# Altium schematic symbol library MOLEX_KK254.SchLib: 5 symbols
Pins are listed as number, name and electrical type; pins without a type are passive.

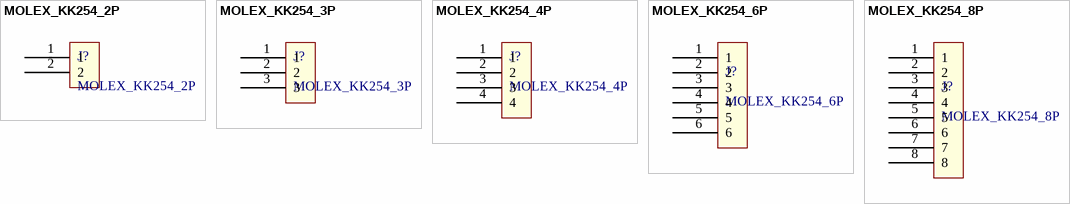
[diagram p0: symbols MOLEX_KK254_2P to MOLEX_KK254_8P]

## MOLEX_KK254_2P
designator J?
footprint MOLEX_KK_254_2P_RIGHT
footprint MOLEX_KK_254_2P_VERT
pins: 1, 2

## MOLEX_KK254_3P
designator J?
footprint MOLEX_KK_254_3P_RIGHT
footprint MOLEX_KK_254_3P_VERT
pins: 1, 2, 3

## MOLEX_KK254_4P
designator J?
footprint MOLEX_KK_254_4P_RIGHT
footprint MOLEX_KK_254_4P_VERT
pins: 1, 2, 3, 4

## MOLEX_KK254_6P
designator J?
footprint MOLEX_KK_254_6P_RIGHT
footprint MOLEX_KK_254_6P_VERT
pins: 1, 2, 3, 4, 5, 6

## MOLEX_KK254_8P
designator J?
footprint MOLEX_KK_254_8P_RIGHT
footprint MOLEX_KK_254_8P_VERT
pins: 1, 2, 3, 4, 5, 6, 7, 8